# Altium schematic symbol library Surface Mount.SchLib: 89 symbols
Pins are listed as number, name and electrical type; pins without a type are passive.

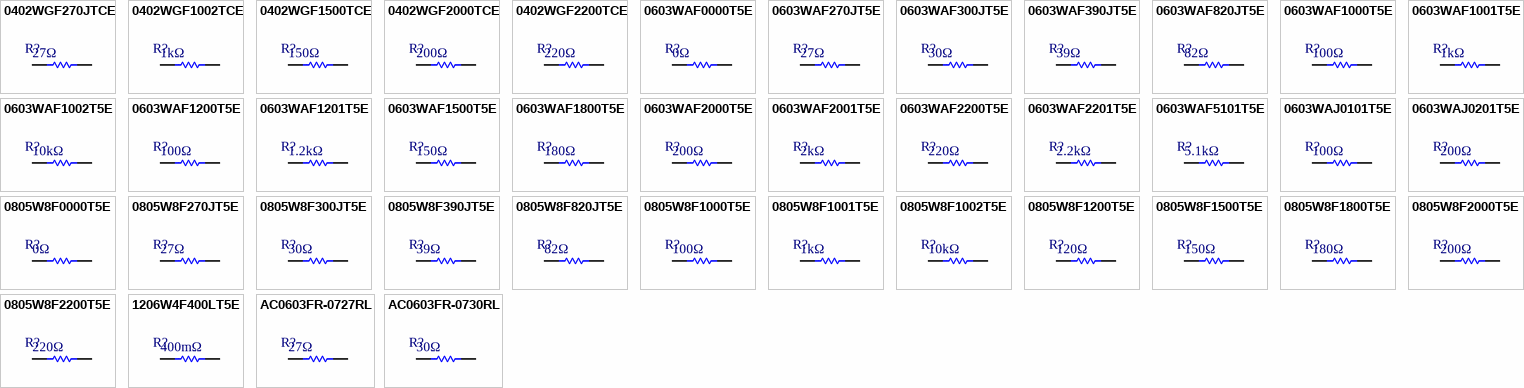
[diagram p0: symbols 0402WGF270JTCE to AC0603FR-0730RL]

## 0402WGF270JTCE
designator R?  value 27Ω  (hidden comment: 0402WGF270JTCE)
UNI-ROYAL(厚声) 0402 厚膜电阻 27Ω ±1% 62.5mW; 封装: 0402; 类别: 贴片电阻; 温度系数: ±100ppm/℃; 制造商: UNI-ROYAL(厚声); 子类别: 厚膜电阻; 精度: ±1%; 功率: 62.5mW; ComponentLink1Description: 数据手册; ComponentLink1URL: https://www.uni-royal.cn/images/userfile/file/1745833593c56505e6d9ab55c7.pdf
footprint UNIROYAL-0402R (UNI-ROYAL(厚声)数据手册中推荐的0402电阻封装)
pins: 1, 2

## 0402WGF1002TCE
designator R?  value 1kΩ  (hidden comment: 0402WGF1002TCE)
UNI-ROYAL(厚声) 0402 厚膜电阻 1kΩ ±1% 62.5mW; 封装: 0402; 类别: 贴片电阻; 温度系数: ±100ppm/℃; 制造商: UNI-ROYAL(厚声); 子类别: 厚膜电阻; 精度: ±1%; 功率: 62.5mW; ComponentLink1Description: 数据手册; ComponentLink1URL: https://www.uni-royal.cn/images/userfile/file/1745833593c56505e6d9ab55c7.pdf
footprint UNIROYAL-0402R (UNI-ROYAL(厚声)数据手册中推荐的0402电阻封装)
pins: 1, 2

## 0402WGF1500TCE
designator R?  value 150Ω  (hidden comment: 0402WGF1500TCE)
UNI-ROYAL(厚声) 0402 厚膜电阻 150Ω ±1% 62.5mW; 封装: 0402; 类别: 贴片电阻; 温度系数: ±100ppm/℃; 制造商: UNI-ROYAL(厚声); 子类别: 厚膜电阻; 精度: ±1%; 功率: 62.5mW; ComponentLink1Description: 数据手册; ComponentLink1URL: https://www.uni-royal.cn/images/userfile/file/1745833593c56505e6d9ab55c7.pdf
footprint UNIROYAL-0402R (UNI-ROYAL(厚声)数据手册中推荐的0402电阻封装)
pins: 1, 2

## 0402WGF2000TCE
designator R?  value 200Ω  (hidden comment: 0402WGF2000TCE)
UNI-ROYAL(厚声) 0402 厚膜电阻 200Ω ±1% 62.5mW; 封装: 0402; 类别: 贴片电阻; 温度系数: ±100ppm/℃; 制造商: UNI-ROYAL(厚声); 子类别: 厚膜电阻; 精度: ±1%; 功率: 62.5mW; ComponentLink1Description: 数据手册; ComponentLink1URL: https://www.uni-royal.cn/images/userfile/file/1745833593c56505e6d9ab55c7.pdf
footprint UNIROYAL-0402R (UNI-ROYAL(厚声)数据手册中推荐的0402电阻封装)
pins: 1, 2

## 0402WGF2200TCE
designator R?  value 220Ω  (hidden comment: 0402WGF2200TCE)
UNI-ROYAL(厚声) 0402 厚膜电阻 220Ω ±1% 62.5mW; 封装: 0402; 类别: 贴片电阻; 温度系数: ±100ppm/℃; 制造商: UNI-ROYAL(厚声); 子类别: 厚膜电阻; 精度: ±1%; 功率: 62.5mW; ComponentLink1Description: 数据手册; ComponentLink1URL: https://www.uni-royal.cn/images/userfile/file/1745833593c56505e6d9ab55c7.pdf
footprint UNIROYAL-0402R (UNI-ROYAL(厚声)数据手册中推荐的0402电阻封装)
pins: 1, 2

## 0603WAF0000T5E
designator R?  value 0Ω  (hidden comment: 0603WAF0000T5E)
UNI-ROYAL(厚声) 0603 厚膜电阻 0Ω ±1% 100mW; 封装: 0603; 类别: 贴片电阻; 温度系数: ±100ppm/℃; 制造商: UNI-ROYAL(厚声); 子类别: 厚膜电阻; 精度: ±1%; 功率: 100mW; ComponentLink1Description: 数据手册; ComponentLink1URL: https://www.uni-royal.cn/images/userfile/file/1745833593c56505e6d9ab55c7.pdf
footprint UNIROYAL-0603R (UNI-ROYAL(厚声)数据手册中推荐的0603电阻封装)
pins: 1, 2

## 0603WAF270JT5E
designator R?  value 27Ω  (hidden comment: 0603WAF270JT5E)
UNI-ROYAL(厚声) 0603 厚膜电阻 27Ω ±1% 100mW; 封装: 0603; 类别: 贴片电阻; 温度系数: ±100ppm/℃; 制造商: UNI-ROYAL(厚声); 子类别: 厚膜电阻; 精度: ±1%; 功率: 100mW; ComponentLink1Description: 数据手册; ComponentLink1URL: https://www.uni-royal.cn/images/userfile/file/1745833593c56505e6d9ab55c7.pdf
footprint UNIROYAL-0603R (UNI-ROYAL(厚声)数据手册中推荐的0603电阻封装)
pins: 1, 2

## 0603WAF300JT5E
designator R?  value 30Ω  (hidden comment: 0603WAF300JT5E)
UNI-ROYAL(厚声) 0603 厚膜电阻 30Ω ±5% 100mW; 封装: 0603; 类别: 贴片电阻; 温度系数: ±100ppm/℃; 制造商: UNI-ROYAL(厚声); 子类别: 厚膜电阻; 精度: ±5%; 功率: 100mW; ComponentLink1Description: 数据手册; ComponentLink1URL: https://www.uni-royal.cn/images/userfile/file/1745833593c56505e6d9ab55c7.pdf
footprint UNIROYAL-0603R (UNI-ROYAL(厚声)数据手册中推荐的0603电阻封装)
pins: 1, 2

## 0603WAF390JT5E
designator R?  value 39Ω  (hidden comment: 0603WAF390JT5E)
UNI-ROYAL(厚声) 0603 厚膜电阻 39Ω ±1% 100mW; 封装: 0603; 类别: 贴片电阻; 温度系数: ±100ppm/℃; 制造商: UNI-ROYAL(厚声); 子类别: 厚膜电阻; 精度: ±1%; 功率: 100mW; ComponentLink1Description: 数据手册; ComponentLink1URL: https://www.uni-royal.cn/images/userfile/file/1745833593c56505e6d9ab55c7.pdf
footprint UNIROYAL-0603R (UNI-ROYAL(厚声)数据手册中推荐的0603电阻封装)
pins: 1, 2

## 0603WAF820JT5E
designator R?  value 82Ω  (hidden comment: 0603WAF820JT5E)
UNI-ROYAL(厚声) 0603 厚膜电阻 82Ω ±1% 100mW; 封装: 0603; 类别: 贴片电阻; 温度系数: ±100ppm/℃; 制造商: UNI-ROYAL(厚声); 子类别: 厚膜电阻; 精度: ±1%; 功率: 100mW; ComponentLink1Description: 数据手册; ComponentLink1URL: https://www.uni-royal.cn/images/userfile/file/1745833593c56505e6d9ab55c7.pdf
footprint UNIROYAL-0603R (UNI-ROYAL(厚声)数据手册中推荐的0603电阻封装)
pins: 1, 2

## 0603WAF1000T5E
designator R?  value 100Ω  (hidden comment: 0603WAF1000T5E)
UNI-ROYAL(厚声) 0603 厚膜电阻 100Ω ±1% 100mW; 封装: 0603; 类别: 贴片电阻; 温度系数: ±100ppm/℃; 制造商: UNI-ROYAL(厚声); 子类别: 厚膜电阻; 精度: ±1%; 功率: 100mW; ComponentLink1Description: 数据手册; ComponentLink1URL: https://www.uni-royal.cn/images/userfile/file/1745833593c56505e6d9ab55c7.pdf
footprint UNIROYAL-0603R (UNI-ROYAL(厚声)数据手册中推荐的0603电阻封装)
pins: 1, 2

## 0603WAF1001T5E
designator R?, comment value 1kΩ  (hidden comment: 0603WAF1002T5E)
UNI-ROYAL(厚声) 0603 厚膜电阻 1kΩ ±1% 100mW; 封装: 0603; 类别: 贴片电阻; 温度系数: ±100ppm/℃; 制造商: UNI-ROYAL(厚声); 子类别: 厚膜电阻; 精度: ±1%; 功率: 100mW; ComponentLink1Description: 数据手册; ComponentLink1URL: https://www.uni-royal.cn/images/userfile/file/1745833593c56505e6d9ab55c7.pdf
footprint UNIROYAL-0603R (UNI-ROYAL(厚声)数据手册中推荐的0603电阻封装)
pins: 1, 2

## 0603WAF1002T5E
designator R?  value 10kΩ  (hidden comment: 0603WAF1002T5E)
UNI-ROYAL(厚声) 0603 厚膜电阻 10kΩ ±1% 100mW; 封装: 0603; 类别: 贴片电阻; 温度系数: ±100ppm/℃; 制造商: UNI-ROYAL(厚声); 子类别: 厚膜电阻; 精度: ±1%; 功率: 100mW; ComponentLink1Description: 数据手册; ComponentLink1URL: https://www.uni-royal.cn/images/userfile/file/1745833593c56505e6d9ab55c7.pdf
footprint UNIROYAL-0603R (UNI-ROYAL(厚声)数据手册中推荐的0603电阻封装)
pins: 1, 2

## 0603WAF1200T5E
designator R?  value 100Ω  (hidden comment: 0603WAF1200T5E)
UNI-ROYAL(厚声) 0603 厚膜电阻 120Ω ±1% 100mW; 封装: 0603; 类别: 贴片电阻; 温度系数: ±100ppm/℃; 制造商: UNI-ROYAL(厚声); 子类别: 厚膜电阻; 精度: ±1%; 功率: 100mW; ComponentLink1Description: 数据手册; ComponentLink1URL: https://www.uni-royal.cn/images/userfile/file/1745833593c56505e6d9ab55c7.pdf
footprint UNIROYAL-0603R (UNI-ROYAL(厚声)数据手册中推荐的0603电阻封装)
pins: 1, 2

## 0603WAF1201T5E
designator R?  value 1.2kΩ  (hidden comment: 0603WAF1201T5E)
UNI-ROYAL(厚声) 0603 厚膜电阻 1.2kΩ ±1% 100mW; 封装: 0603; 类别: 贴片电阻; 温度系数: ±100ppm/℃; 制造商: UNI-ROYAL(厚声); 子类别: 厚膜电阻; 精度: ±1%; 功率: 100mW; ComponentLink1Description: 数据手册; ComponentLink1URL: https://www.uni-royal.cn/images/userfile/file/1745833593c56505e6d9ab55c7.pdf
footprint UNIROYAL-0603R (UNI-ROYAL(厚声)数据手册中推荐的0603电阻封装)
pins: 1, 2

## 0603WAF1500T5E
designator R?  value 150Ω  (hidden comment: 0603WAF1500T5E)
UNI-ROYAL(厚声) 0603 厚膜电阻 150Ω ±1% 100mW; 封装: 0603; 类别: 贴片电阻; 温度系数: ±100ppm/℃; 制造商: UNI-ROYAL(厚声); 子类别: 厚膜电阻; 精度: ±1%; 功率: 100mW; ComponentLink1Description: 数据手册; ComponentLink1URL: https://www.uni-royal.cn/images/userfile/file/1745833593c56505e6d9ab55c7.pdf
footprint UNIROYAL-0603R (UNI-ROYAL(厚声)数据手册中推荐的0603电阻封装)
pins: 1, 2

## 0603WAF1800T5E
designator R?  value 180Ω  (hidden comment: 0603WAF1800T5E)
UNI-ROYAL(厚声) 0603 厚膜电阻 180Ω ±1% 100mW; 封装: 0603; 类别: 贴片电阻; 温度系数: ±100ppm/℃; 制造商: UNI-ROYAL(厚声); 子类别: 厚膜电阻; 精度: ±1%; 功率: 100mW; ComponentLink1Description: 数据手册; ComponentLink1URL: https://www.uni-royal.cn/images/userfile/file/1745833593c56505e6d9ab55c7.pdf
footprint UNIROYAL-0603R (UNI-ROYAL(厚声)数据手册中推荐的0603电阻封装)
pins: 1, 2

## 0603WAF2000T5E
designator R?  value 200Ω  (hidden comment: 0603WAF2000T5E)
UNI-ROYAL(厚声) 0603 厚膜电阻 200Ω ±1% 100mW; 封装: 0603; 类别: 贴片电阻; 温度系数: ±100ppm/℃; 制造商: UNI-ROYAL(厚声); 子类别: 厚膜电阻; 精度: ±1%; 功率: 100mW; ComponentLink1Description: 数据手册; ComponentLink1URL: https://www.uni-royal.cn/images/userfile/file/1745833593c56505e6d9ab55c7.pdf
footprint UNIROYAL-0603R (UNI-ROYAL(厚声)数据手册中推荐的0603电阻封装)
pins: 1, 2

## 0603WAF2001T5E
designator R?  value 2kΩ  (hidden comment: 0603WAF2001T5E)
UNI-ROYAL(厚声) 0603 厚膜电阻 2kΩ ±1% 100mW; 封装: 0603; 类别: 贴片电阻; 温度系数: ±100ppm/℃; 制造商: UNI-ROYAL(厚声); 子类别: 厚膜电阻; 精度: ±1%; 功率: 100mW; ComponentLink1Description: 数据手册; ComponentLink1URL: https://www.uni-royal.cn/images/userfile/file/1745833593c56505e6d9ab55c7.pdf
footprint UNIROYAL-0603R (UNI-ROYAL(厚声)数据手册中推荐的0603电阻封装)
pins: 1, 2

## 0603WAF2200T5E
designator R?  value 220Ω  (hidden comment: 0603WAF2200T5E)
UNI-ROYAL(厚声) 0603 厚膜电阻 220Ω ±1% 100mW; 封装: 0603; 类别: 贴片电阻; 温度系数: ±100ppm/℃; 制造商: UNI-ROYAL(厚声); 子类别: 厚膜电阻; 精度: ±1%; 功率: 100mW; ComponentLink1Description: 数据手册; ComponentLink1URL: https://www.uni-royal.cn/images/userfile/file/1745833593c56505e6d9ab55c7.pdf
footprint UNIROYAL-0603R (UNI-ROYAL(厚声)数据手册中推荐的0603电阻封装)
pins: 1, 2

## 0603WAF2201T5E
designator R?  value 2.2kΩ  (hidden comment: 0603WAF2201T5E)
UNI-ROYAL(厚声) 0603 厚膜电阻 2.2kΩ ±1% 100mW; 封装: 0603; 类别: 贴片电阻; 温度系数: ±100ppm/℃; 制造商: UNI-ROYAL(厚声); 子类别: 厚膜电阻; 精度: ±1%; 功率: 100mW; ComponentLink1Description: 数据手册; ComponentLink1URL: https://www.uni-royal.cn/images/userfile/file/1745833593c56505e6d9ab55c7.pdf
footprint UNIROYAL-0603R (UNI-ROYAL(厚声)数据手册中推荐的0603电阻封装)
pins: 1, 2

## 0603WAF5101T5E
designator R?  value 5.1kΩ  (hidden comment: 0603WAF5101T5E)
UNI-ROYAL(厚声) 0603 厚膜电阻 5.1kΩ ±1% 100mW; 封装: 0603; 类别: 贴片电阻; 温度系数: ±100ppm/℃; 制造商: UNI-ROYAL(厚声); 子类别: 厚膜电阻; 精度: ±1%; 功率: 100mW; ComponentLink1Description: 数据手册; ComponentLink1URL: https://www.uni-royal.cn/images/userfile/file/1745833593c56505e6d9ab55c7.pdf
footprint UNIROYAL-0603R (UNI-ROYAL(厚声)数据手册中推荐的0603电阻封装)
pins: 1, 2

## 0603WAJ0101T5E
designator R?  value 100Ω  (hidden comment: 0603WAJ0101T5E)
UNI-ROYAL(厚声) 0603 厚膜电阻 100Ω ±5% 100mW; 封装: 0603; 类别: 贴片电阻; 温度系数: ±100ppm/℃; 制造商: UNI-ROYAL(厚声); 子类别: 厚膜电阻; 精度: ±5%; 功率: 100mW; ComponentLink1Description: 数据手册; ComponentLink1URL: https://www.uni-royal.cn/images/userfile/file/1745833593c56505e6d9ab55c7.pdf
footprint UNIROYAL-0603R (UNI-ROYAL(厚声)数据手册中推荐的0603电阻封装)
pins: 1, 2

## 0603WAJ0201T5E
designator R?  value 200Ω  (hidden comment: 0603WAJ0201T5E)
UNI-ROYAL(厚声) 0603 厚膜电阻 200Ω ±5% 100mW; 封装: 0603; 类别: 贴片电阻; 温度系数: ±100ppm/℃; 制造商: UNI-ROYAL(厚声); 子类别: 厚膜电阻; 精度: ±5%; 功率: 100mW; ComponentLink1Description: 数据手册; ComponentLink1URL: https://www.uni-royal.cn/images/userfile/file/1745833593c56505e6d9ab55c7.pdf
footprint UNIROYAL-0603R (UNI-ROYAL(厚声)数据手册中推荐的0603电阻封装)
pins: 1, 2

## 0805W8F0000T5E
designator R?  value 0Ω  (hidden comment: 0805W8F0000T5E)
UNI-ROYAL(厚声) 0805 厚膜电阻 0Ω ±1% 125mW; 封装: 0805; 类别: 贴片电阻; 温度系数: ±100ppm/℃; 制造商: UNI-ROYAL(厚声); 子类别: 厚膜电阻; 精度: ±1%; 功率: 125mW; ComponentLink1Description: 数据手册; ComponentLink1URL: https://www.uni-royal.cn/images/userfile/file/1745833593c56505e6d9ab55c7.pdf
footprint UNIROYAL-0805R (UNI-ROYAL(厚声)数据手册中推荐的0805贴片电阻封装)
pins: 1, 2

## 0805W8F270JT5E
designator R?  value 27Ω  (hidden comment: 0805W8F270JT5E)
UNI-ROYAL(厚声) 0805 厚膜电阻 27Ω ±1% 125mW; 封装: 0805; 类别: 贴片电阻; 温度系数: ±100ppm/℃; 制造商: UNI-ROYAL(厚声); 子类别: 厚膜电阻; 精度: ±1%; 功率: 125mW; ComponentLink1Description: 数据手册; ComponentLink1URL: https://www.uni-royal.cn/images/userfile/file/1745833593c56505e6d9ab55c7.pdf
footprint UNIROYAL-0805R (UNI-ROYAL(厚声)数据手册中推荐的0805贴片电阻封装)
pins: 1, 2

## 0805W8F300JT5E
designator R?  value 30Ω  (hidden comment: 0805W8F300JT5E)
UNI-ROYAL(厚声) 0805 厚膜电阻 30Ω ±1% 125mW; 封装: 0805; 类别: 贴片电阻; 温度系数: ±100ppm/℃; 制造商: UNI-ROYAL(厚声); 子类别: 厚膜电阻; 精度: ±1%; 功率: 125mW; ComponentLink1Description: 数据手册; ComponentLink1URL: https://www.uni-royal.cn/images/userfile/file/1745833593c56505e6d9ab55c7.pdf
footprint UNIROYAL-0805R (UNI-ROYAL(厚声)数据手册中推荐的0805贴片电阻封装)
pins: 1, 2

## 0805W8F390JT5E
designator R?  value 39Ω  (hidden comment: 0805W8F390JT5E)
UNI-ROYAL(厚声) 0805 厚膜电阻 39Ω ±1% 125mW; 封装: 0805; 类别: 贴片电阻; 温度系数: ±100ppm/℃; 制造商: UNI-ROYAL(厚声); 子类别: 厚膜电阻; 精度: ±1%; 功率: 125mW; ComponentLink1Description: 数据手册; ComponentLink1URL: https://www.uni-royal.cn/images/userfile/file/1745833593c56505e6d9ab55c7.pdf
footprint UNIROYAL-0805R (UNI-ROYAL(厚声)数据手册中推荐的0805贴片电阻封装)
pins: 1, 2

## 0805W8F820JT5E
designator R?  value 82Ω  (hidden comment: 0805W8F820JT5E)
UNI-ROYAL(厚声) 0805 厚膜电阻 82Ω ±1% 125mW; 封装: 0805; 类别: 贴片电阻; 温度系数: ±100ppm/℃; 制造商: UNI-ROYAL(厚声); 子类别: 厚膜电阻; 精度: ±1%; 功率: 125mW; ComponentLink1Description: 数据手册; ComponentLink1URL: https://www.uni-royal.cn/images/userfile/file/1745833593c56505e6d9ab55c7.pdf
footprint UNIROYAL-0805R (UNI-ROYAL(厚声)数据手册中推荐的0805贴片电阻封装)
pins: 1, 2

## 0805W8F1000T5E
designator R?  value 100Ω  (hidden comment: 0805W8F1000T5E)
UNI-ROYAL(厚声) 0805 厚膜电阻 100Ω ±1% 125mW; 封装: 0805; 类别: 贴片电阻; 温度系数: ±100ppm/℃; 制造商: UNI-ROYAL(厚声); 子类别: 厚膜电阻; 精度: ±1%; 功率: 125mW; ComponentLink1Description: 数据手册; ComponentLink1URL: https://www.uni-royal.cn/images/userfile/file/1745833593c56505e6d9ab55c7.pdf
footprint UNIROYAL-0805R (UNI-ROYAL(厚声)数据手册中推荐的0805贴片电阻封装)
pins: 1, 2

## 0805W8F1001T5E
designator R?  value 1kΩ  (hidden comment: 0805W8F1001T5E)
UNI-ROYAL(厚声) 0805 厚膜电阻 1kΩ ±1% 125mW; 封装: 0805; 类别: 贴片电阻; 温度系数: ±100ppm/℃; 制造商: UNI-ROYAL(厚声); 子类别: 厚膜电阻; 精度: ±1%; 功率: 125mW; ComponentLink1Description: 数据手册; ComponentLink1URL: https://www.uni-royal.cn/images/userfile/file/1745833593c56505e6d9ab55c7.pdf
footprint UNIROYAL-0805R (UNI-ROYAL(厚声)数据手册中推荐的0805贴片电阻封装)
pins: 1, 2

## 0805W8F1002T5E
designator R?  value 10kΩ  (hidden comment: 0805W8F1002T5E)
UNI-ROYAL(厚声) 0805 厚膜电阻 10kΩ ±1% 125mW; 封装: 0805; 类别: 贴片电阻; 温度系数: ±100ppm/℃; 制造商: UNI-ROYAL(厚声); 子类别: 厚膜电阻; 精度: ±1%; 功率: 125mW; ComponentLink1Description: 数据手册; ComponentLink1URL: https://www.uni-royal.cn/images/userfile/file/1745833593c56505e6d9ab55c7.pdf
footprint UNIROYAL-0805R (UNI-ROYAL(厚声)数据手册中推荐的0805贴片电阻封装)
pins: 1, 2

## 0805W8F1200T5E
designator R?  value 120Ω  (hidden comment: 0805W8F1200T5E)
UNI-ROYAL(厚声) 0805 厚膜电阻 120Ω ±1% 125mW; 封装: 0805; 类别: 贴片电阻; 温度系数: ±100ppm/℃; 制造商: UNI-ROYAL(厚声); 子类别: 厚膜电阻; 精度: ±1%; 功率: 125mW; ComponentLink1Description: 数据手册; ComponentLink1URL: https://www.uni-royal.cn/images/userfile/file/1745833593c56505e6d9ab55c7.pdf
footprint UNIROYAL-0805R (UNI-ROYAL(厚声)数据手册中推荐的0805贴片电阻封装)
pins: 1, 2

## 0805W8F1500T5E
designator R?  value 150Ω  (hidden comment: 0805W8F1500T5E)
UNI-ROYAL(厚声) 0805 厚膜电阻 150Ω ±1% 125mW; 封装: 0805; 类别: 贴片电阻; 温度系数: ±100ppm/℃; 制造商: UNI-ROYAL(厚声); 子类别: 厚膜电阻; 精度: ±1%; 功率: 125mW; ComponentLink1Description: 数据手册; ComponentLink1URL: https://www.uni-royal.cn/images/userfile/file/1745833593c56505e6d9ab55c7.pdf
footprint UNIROYAL-0805R (UNI-ROYAL(厚声)数据手册中推荐的0805贴片电阻封装)
pins: 1, 2

## 0805W8F1800T5E
designator R?  value 180Ω  (hidden comment: 0805W8F1800T5E)
UNI-ROYAL(厚声) 0805 厚膜电阻 180Ω ±1% 125mW; 封装: 0805; 类别: 贴片电阻; 温度系数: ±100ppm/℃; 制造商: UNI-ROYAL(厚声); 子类别: 厚膜电阻; 精度: ±1%; 功率: 125mW; ComponentLink1Description: 数据手册; ComponentLink1URL: https://www.uni-royal.cn/images/userfile/file/1745833593c56505e6d9ab55c7.pdf
footprint UNIROYAL-0805R (UNI-ROYAL(厚声)数据手册中推荐的0805贴片电阻封装)
pins: 1, 2

## 0805W8F2000T5E
designator R?  value 200Ω  (hidden comment: 0805W8F2000T5E)
UNI-ROYAL(厚声) 0805 厚膜电阻 200Ω ±1% 125mW; 封装: 0805; 类别: 贴片电阻; 温度系数: ±100ppm/℃; 制造商: UNI-ROYAL(厚声); 子类别: 厚膜电阻; 精度: ±1%; 功率: 125mW; ComponentLink1Description: 数据手册; ComponentLink1URL: https://www.uni-royal.cn/images/userfile/file/1745833593c56505e6d9ab55c7.pdf
footprint UNIROYAL-0805R (UNI-ROYAL(厚声)数据手册中推荐的0805贴片电阻封装)
pins: 1, 2

## 0805W8F2200T5E
designator R?  value 220Ω  (hidden comment: 0805W8F2200T5E)
UNI-ROYAL(厚声) 0805 厚膜电阻 220Ω ±1% 125mW; 封装: 0805; 类别: 贴片电阻; 温度系数: ±100ppm/℃; 制造商: UNI-ROYAL(厚声); 子类别: 厚膜电阻; 精度: ±1%; 功率: 125mW; ComponentLink1Description: 数据手册; ComponentLink1URL: https://www.uni-royal.cn/images/userfile/file/1745833593c56505e6d9ab55c7.pdf
footprint UNIROYAL-0805R (UNI-ROYAL(厚声)数据手册中推荐的0805贴片电阻封装)
pins: 1, 2

## 1206W4F400LT5E
designator R?  value 400mΩ  (hidden comment: 1206W4F400LT5E)
UNI-ROYAL(厚声) 1206 厚膜电阻 400mΩ ±1% 250mW; 封装: 1206; 类别: 贴片电阻; 温度系数: ±100ppm/℃; 制造商: UNI-ROYAL(厚声); 子类别: 厚膜电阻; 精度: ±1%; 功率: 250mW; ComponentLink1Description: 数据手册; ComponentLink1URL: https://www.uni-royal.cn/images/userfile/file/1745833593c56505e6d9ab55c7.pdf
footprint UNIROYAL-1206R (UNI-ROYAL(厚声)数据手册中推荐的1206贴片电阻封装)
pins: 1, 2

## AC0603FR-0727RL
designator R?  value 27Ω  (hidden comment: AC0603FR-0727RL)
YAGEO(国巨) 0603 厚膜电阻 27Ω ±1% 100mW; 封装: 0603; 类别: 贴片电阻; 温度系数: ±100ppm/℃; 制造商: YAGEO(国巨); 子类别: 厚膜电阻; 精度: ±1%; 功率: 100mW; ComponentLink1Description: 数据手册; ComponentLink1URL: https://www.yageo.com/upload/website/yageo_PYu-R_INT-thick_8_19090411_330.pdf
footprint YAGEO-0603R-reflow (YAGEO(国巨)数据手册中推荐的0603电阻的回流焊封装)
footprint YAGEO-0603R-wave (YAGEO(国巨)数据手册中推荐的0603电阻的波峰焊封装)
pins: 1, 2

## AC0603FR-0730RL
designator R?  value 30Ω  (hidden comment: AC0603FR-0730RL)
YAGEO(国巨) 0603 厚膜电阻 30Ω ±1% 100mW; 封装: 0603; 类别: 贴片电阻; 温度系数: ±100ppm/℃; 制造商: YAGEO(国巨); 子类别: 厚膜电阻; 精度: ±1%; 功率: 100mW; ComponentLink1Description: 数据手册; ComponentLink1URL: https://www.yageo.com/upload/website/yageo_PYu-R_INT-thick_8_19090411_330.pdf
footprint YAGEO-0603R-reflow (YAGEO(国巨)数据手册中推荐的0603电阻的回流焊封装)
footprint YAGEO-0603R-wave (YAGEO(国巨)数据手册中推荐的0603电阻的波峰焊封装)
pins: 1, 2

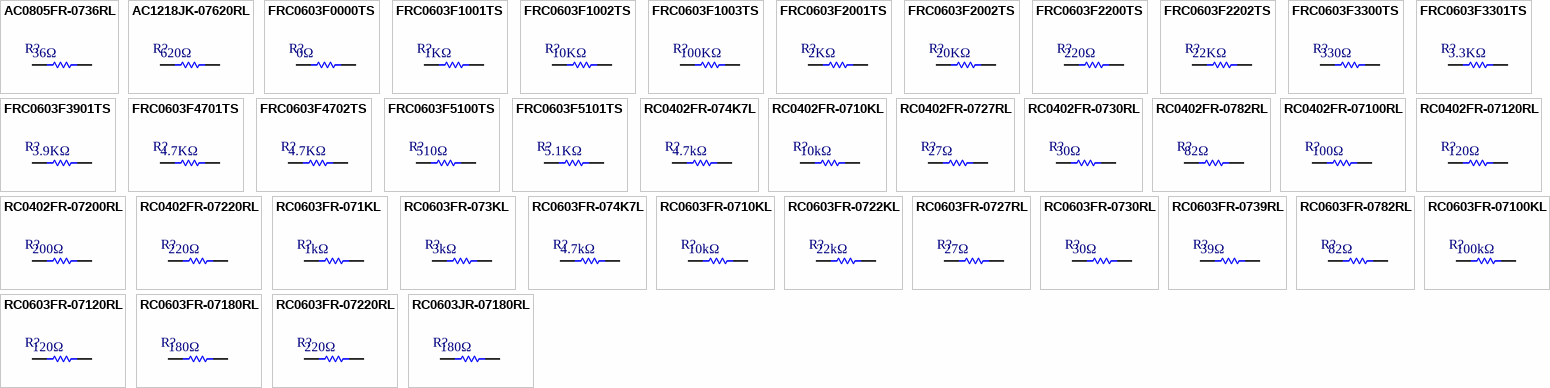
[diagram p1: symbols AC0805FR-0736RL to RC0603JR-07180RL]

## AC0805FR-0736RL
designator R?  value 36Ω  (hidden comment: AC0805FR-0736RL)
YAGEO(国巨) 0805 厚膜电阻 36Ω ±1% 125mW; 封装: 0805; 类别: 贴片电阻; 温度系数: ±100ppm/℃; 制造商: YAGEO(国巨); 子类别: 厚膜电阻; 精度: ±1%; 功率: 125mW; ComponentLink1Description: 数据手册; ComponentLink1URL: https://www.yageo.com/upload/website/yageo_PYu-R_INT-thick_8_19090411_330.pdf
footprint YAGEO-0805R-reflow (YAGEO(国巨)数据手册中推荐的0805贴片电阻的回流焊封装)
footprint YAGEO-0805R-wave (YAGEO(国巨)数据手册中推荐的0805贴片电阻的波峰焊封装)
pins: 1, 2

## AC1218JK-07620RL
designator R?  value 620Ω  (hidden comment: AC1218JK-07620RL)
YAGEO(国巨) 1218 厚膜电阻 620Ω ±5% 1W; 封装: 1218; 类别: 贴片电阻; 温度系数: ±100ppm/℃; 制造商: YAGEO(国巨); 子类别: 厚膜电阻; 精度: ±5%; 功率: 1W; ComponentLink1Description: 数据手册; ComponentLink1URL: https://www.yageo.com/upload/website/yageo_PYu-R_INT-thick_8_19090411_330.pdf
footprint YAGEO-1218R-reflow (YAGEO(国巨)数据手册中推荐的1218贴片电阻的回流焊封装)
footprint YAGEO-1218R-wave (YAGEO(国巨)数据手册中推荐的1218贴片电阻的波峰焊封装)
pins: 1, 2

## FRC0603F0000TS
designator R?  value 0Ω  (hidden comment: FRC0603F0000TS)
FOJAN(富捷) 0603 厚膜电阻 0Ω ±1% 100mW; 封装: 0603; 类别: 贴片电阻; 温度系数: ±100ppm/℃; 制造商: FOJAN(富捷); 子类别: 厚膜电阻; 精度: ±1%; 功率: 100mW; ComponentLink1Description: 数据手册; ComponentLink1URL: https://www.fosan.vip/Admin/Others/DownloadsPage.aspx?nid=3&id=230&tag=0&ref=prod_view&pre=0&t=3d67307fafa5412e
footprint FOJAN-0603 (FOJAN(富捷) 贴片电阻封装 根据尺寸生成)
pins: 1, 2

## FRC0603F1001TS
designator R?  value 1KΩ  (hidden comment: FRC0603F1001TS)
FOJAN(富捷) 0603 厚膜电阻 1KΩ ±1% 100mW; 封装: 0603; 类别: 贴片电阻; 温度系数: ±100ppm/℃; 制造商: FOJAN(富捷); 子类别: 厚膜电阻; 精度: ±1%; 功率: 100mW; ComponentLink1Description: 数据手册; ComponentLink1URL: https://www.fosan.vip/Admin/Others/DownloadsPage.aspx?nid=3&id=230&tag=0&ref=prod_view&pre=0&t=3d67307fafa5412e
footprint FOJAN-0603 (FOJAN(富捷) 贴片电阻封装 根据尺寸生成)
pins: 1, 2

## FRC0603F1002TS
designator R?  value 10KΩ  (hidden comment: FRC0603F1002TS)
FOJAN(富捷) 0603 厚膜电阻 10KΩ ±1% 100mW; 封装: 0603; 类别: 贴片电阻; 温度系数: ±100ppm/℃; 制造商: FOJAN(富捷); 子类别: 厚膜电阻; 精度: ±1%; 功率: 100mW; ComponentLink1Description: 数据手册; ComponentLink1URL: https://www.fosan.vip/Admin/Others/DownloadsPage.aspx?nid=3&id=230&tag=0&ref=prod_view&pre=0&t=3d67307fafa5412e
footprint FOJAN-0603 (FOJAN(富捷) 贴片电阻封装 根据尺寸生成)
pins: 1, 2

## FRC0603F1003TS
designator R?  value 100KΩ  (hidden comment: FRC0603F1003TS)
FOJAN(富捷) 0603 厚膜电阻 100KΩ ±1% 100mW; 封装: 0603; 类别: 贴片电阻; 温度系数: ±100ppm/℃; 制造商: FOJAN(富捷); 子类别: 厚膜电阻; 精度: ±1%; 功率: 100mW; ComponentLink1Description: 数据手册; ComponentLink1URL: https://www.fosan.vip/Admin/Others/DownloadsPage.aspx?nid=3&id=230&tag=0&ref=prod_view&pre=0&t=3d67307fafa5412e
footprint FOJAN-0603 (FOJAN(富捷) 贴片电阻封装 根据尺寸生成)
pins: 1, 2

## FRC0603F2001TS
designator R?  value 2KΩ  (hidden comment: FRC0603F2001TS)
FOJAN(富捷) 0603 厚膜电阻 2KΩ ±1% 100mW; 封装: 0603; 类别: 贴片电阻; 温度系数: ±100ppm/℃; 制造商: FOJAN(富捷); 子类别: 厚膜电阻; 精度: ±1%; 功率: 100mW; ComponentLink1Description: 数据手册; ComponentLink1URL: https://www.fosan.vip/Admin/Others/DownloadsPage.aspx?nid=3&id=230&tag=0&ref=prod_view&pre=0&t=3d67307fafa5412e
footprint FOJAN-0603 (FOJAN(富捷) 贴片电阻封装 根据尺寸生成)
pins: 1, 2

## FRC0603F2002TS
designator R?  value 20KΩ  (hidden comment: FRC0603F2002TS)
FOJAN(富捷) 0603 厚膜电阻 20KΩ ±1% 100mW; 封装: 0603; 类别: 贴片电阻; 温度系数: ±100ppm/℃; 制造商: FOJAN(富捷); 子类别: 厚膜电阻; 精度: ±1%; 功率: 100mW; ComponentLink1Description: 数据手册; ComponentLink1URL: https://www.fosan.vip/Admin/Others/DownloadsPage.aspx?nid=3&id=230&tag=0&ref=prod_view&pre=0&t=3d67307fafa5412e
footprint FOJAN-0603 (FOJAN(富捷) 贴片电阻封装 根据尺寸生成)
pins: 1, 2

## FRC0603F2200TS
designator R?  value 220Ω  (hidden comment: FRC0603F2200TS)
FOJAN(富捷) 0603 厚膜电阻 220Ω ±1% 100mW; 封装: 0603; 类别: 贴片电阻; 温度系数: ±100ppm/℃; 制造商: FOJAN(富捷); 子类别: 厚膜电阻; 精度: ±1%; 功率: 100mW; ComponentLink1Description: 数据手册; ComponentLink1URL: https://www.fosan.vip/Admin/Others/DownloadsPage.aspx?nid=3&id=230&tag=0&ref=prod_view&pre=0&t=3d67307fafa5412e
footprint FOJAN-0603 (FOJAN(富捷) 贴片电阻封装 根据尺寸生成)
pins: 1, 2

## FRC0603F2202TS
designator R?  value 22KΩ  (hidden comment: FRC0603F2202TS)
FOJAN(富捷) 0603 厚膜电阻 22KΩ ±1% 100mW; 封装: 0603; 类别: 贴片电阻; 温度系数: ±100ppm/℃; 制造商: FOJAN(富捷); 子类别: 厚膜电阻; 精度: ±1%; 功率: 100mW; ComponentLink1Description: 数据手册; ComponentLink1URL: https://www.fosan.vip/Admin/Others/DownloadsPage.aspx?nid=3&id=230&tag=0&ref=prod_view&pre=0&t=3d67307fafa5412e
footprint FOJAN-0603 (FOJAN(富捷) 贴片电阻封装 根据尺寸生成)
pins: 1, 2

## FRC0603F3300TS
designator R?  value 330Ω  (hidden comment: FRC0603F3300TS)
FOJAN(富捷) 0603 厚膜电阻 330Ω ±1% 100mW; 封装: 0603; 类别: 贴片电阻; 温度系数: ±100ppm/℃; 制造商: FOJAN(富捷); 子类别: 厚膜电阻; 精度: ±1%; 功率: 100mW; ComponentLink1Description: 数据手册; ComponentLink1URL: https://www.fosan.vip/Admin/Others/DownloadsPage.aspx?nid=3&id=230&tag=0&ref=prod_view&pre=0&t=3d67307fafa5412e
footprint FOJAN-0603 (FOJAN(富捷) 贴片电阻封装 根据尺寸生成)
pins: 1, 2

## FRC0603F3301TS
designator R?  value 3.3KΩ  (hidden comment: FRC0603F3301TS)
FOJAN(富捷) 0603 厚膜电阻 3.3KΩ ±1% 100mW; 封装: 0603; 类别: 贴片电阻; 温度系数: ±100ppm/℃; 制造商: FOJAN(富捷); 子类别: 厚膜电阻; 精度: ±1%; 功率: 100mW; ComponentLink1Description: 数据手册; ComponentLink1URL: https://www.fosan.vip/Admin/Others/DownloadsPage.aspx?nid=3&id=230&tag=0&ref=prod_view&pre=0&t=3d67307fafa5412e
footprint FOJAN-0603 (FOJAN(富捷) 贴片电阻封装 根据尺寸生成)
pins: 1, 2

## FRC0603F3901TS
designator R?  value 3.9KΩ  (hidden comment: FRC0603F3901TS)
FOJAN(富捷) 0603 厚膜电阻 3.9KΩ ±1% 100mW; 封装: 0603; 类别: 贴片电阻; 温度系数: ±100ppm/℃; 制造商: FOJAN(富捷); 子类别: 厚膜电阻; 精度: ±1%; 功率: 100mW; ComponentLink1Description: 数据手册; ComponentLink1URL: https://www.fosan.vip/Admin/Others/DownloadsPage.aspx?nid=3&id=230&tag=0&ref=prod_view&pre=0&t=3d67307fafa5412e
footprint FOJAN-0603 (FOJAN(富捷) 贴片电阻封装 根据尺寸生成)
pins: 1, 2

## FRC0603F4701TS
designator R?  value 4.7KΩ  (hidden comment: FRC0603F4701TS)
FOJAN(富捷) 0603 厚膜电阻 4.7KΩ ±1% 100mW; 封装: 0603; 类别: 贴片电阻; 温度系数: ±100ppm/℃; 制造商: FOJAN(富捷); 子类别: 厚膜电阻; 精度: ±1%; 功率: 100mW; ComponentLink1Description: 数据手册; ComponentLink1URL: https://www.fosan.vip/Admin/Others/DownloadsPage.aspx?nid=3&id=230&tag=0&ref=prod_view&pre=0&t=3d67307fafa5412e
footprint FOJAN-0603 (FOJAN(富捷) 贴片电阻封装 根据尺寸生成)
pins: 1, 2

## FRC0603F4702TS
designator R?  value 4.7KΩ  (hidden comment: FRC0603F4702TS)
FOJAN(富捷) 0603 厚膜电阻 4.7KΩ ±1% 100mW; 封装: 0603; 类别: 贴片电阻; 温度系数: ±100ppm/℃; 制造商: FOJAN(富捷); 子类别: 厚膜电阻; 精度: ±1%; 功率: 100mW; ComponentLink1Description: 数据手册; ComponentLink1URL: https://www.fosan.vip/Admin/Others/DownloadsPage.aspx?nid=3&id=230&tag=0&ref=prod_view&pre=0&t=3d67307fafa5412e
footprint FOJAN-0603 (FOJAN(富捷) 贴片电阻封装 根据尺寸生成)
pins: 1, 2

## FRC0603F5100TS
designator R?  value 510Ω  (hidden comment: FRC0603F5100TS)
FOJAN(富捷) 0603 厚膜电阻 510Ω ±1% 100mW; 封装: 0603; 类别: 贴片电阻; 温度系数: ±100ppm/℃; 制造商: FOJAN(富捷); 子类别: 厚膜电阻; 精度: ±1%; 功率: 100mW; ComponentLink1Description: 数据手册; ComponentLink1URL: https://www.fosan.vip/Admin/Others/DownloadsPage.aspx?nid=3&id=230&tag=0&ref=prod_view&pre=0&t=3d67307fafa5412e
footprint FOJAN-0603 (FOJAN(富捷) 贴片电阻封装 根据尺寸生成)
pins: 1, 2

## FRC0603F5101TS
designator R?  value 5.1KΩ  (hidden comment: FRC0603F5101TS)
FOJAN(富捷) 0603 厚膜电阻 5.1KΩ ±1% 100mW; 封装: 0603; 类别: 贴片电阻; 温度系数: ±100ppm/℃; 制造商: FOJAN(富捷); 子类别: 厚膜电阻; 精度: ±1%; 功率: 100mW; ComponentLink1Description: 数据手册; ComponentLink1URL: https://www.fosan.vip/Admin/Others/DownloadsPage.aspx?nid=3&id=230&tag=0&ref=prod_view&pre=0&t=3d67307fafa5412e
footprint FOJAN-0603 (FOJAN(富捷) 贴片电阻封装 根据尺寸生成)
pins: 1, 2

## RC0402FR-074K7L
designator R?  value 4.7kΩ  (hidden comment: RC0402FR-074K7L)
YAGEO(国巨) 0402 厚膜电阻 4.7kΩ ±1% 62.5mW; 封装: 0402; 类别: 贴片电阻; 温度系数: ±100ppm/℃; 制造商: YAGEO(国巨); 子类别: 厚膜电阻; 精度: ±1%; 功率: 62.5mW; ComponentLink1Description: 数据手册; ComponentLink1URL: https://www.yageo.com/upload/website/yageo_PYu-R_INT-thick_8_19090411_330.pdf
footprint YAGEO-0402R-reflow (YAGEO(国巨)数据手册中推荐的0402电阻的回流焊封装)
pins: 1, 2

## RC0402FR-0710KL
designator R?  value 10kΩ  (hidden comment: RC0402FR-0710KL)
YAGEO(国巨) 0402 厚膜电阻 10kΩ ±1% 62.5mW; 封装: 0402; 类别: 贴片电阻; 温度系数: ±100ppm/℃; 制造商: YAGEO(国巨); 子类别: 厚膜电阻; 精度: ±1%; 功率: 62.5mW; ComponentLink1Description: 数据手册; ComponentLink1URL: https://www.yageo.com/upload/website/yageo_PYu-R_INT-thick_8_19090411_330.pdf
footprint YAGEO-0402R-reflow (YAGEO(国巨)数据手册中推荐的0402电阻的回流焊封装)
pins: 1, 2

## RC0402FR-0727RL
designator R?  value 27Ω  (hidden comment: RC0402FR-0727RL)
YAGEO(国巨) 0402 厚膜电阻 27Ω ±1% 62.5mW; 封装: 0402; 类别: 贴片电阻; 温度系数: ±100ppm/℃; 制造商: YAGEO(国巨); 子类别: 厚膜电阻; 精度: ±1%; 功率: 62.5mW; ComponentLink1Description: 数据手册; ComponentLink1URL: https://www.yageo.com/upload/website/yageo_PYu-R_INT-thick_8_19090411_330.pdf
footprint YAGEO-0402R-reflow (YAGEO(国巨)数据手册中推荐的0402电阻的回流焊封装)
pins: 1, 2

## RC0402FR-0730RL
designator R?  value 30Ω  (hidden comment: RC0402FR-0730RL)
YAGEO(国巨) 0402 厚膜电阻 30Ω ±1% 62.5mW; 封装: 0402; 类别: 贴片电阻; 温度系数: ±100ppm/℃; 制造商: YAGEO(国巨); 子类别: 厚膜电阻; 精度: ±1%; 功率: 62.5mW; ComponentLink1Description: 数据手册; ComponentLink1URL: https://www.yageo.com/upload/website/yageo_PYu-R_INT-thick_8_19090411_330.pdf
footprint YAGEO-0402R-reflow (YAGEO(国巨)数据手册中推荐的0402电阻的回流焊封装)
pins: 1, 2

## RC0402FR-0782RL
designator R?  value 82Ω  (hidden comment: RC0402FR-0782RL)
YAGEO(国巨) 0402 厚膜电阻 82Ω ±1% 62.5mW; 封装: 0402; 类别: 贴片电阻; 温度系数: ±100ppm/℃; 制造商: YAGEO(国巨); 子类别: 厚膜电阻; 精度: ±1%; 功率: 62.5mW; ComponentLink1Description: 数据手册; ComponentLink1URL: https://www.yageo.com/upload/website/yageo_PYu-R_INT-thick_8_19090411_330.pdf
footprint YAGEO-0402R-reflow (YAGEO(国巨)数据手册中推荐的0402电阻的回流焊封装)
pins: 1, 2

## RC0402FR-07100RL
designator R?  value 100Ω  (hidden comment: RC0402FR-07100RL)
YAGEO(国巨) 0402 厚膜电阻 100Ω ±1% 62.5mW; 封装: 0402; 类别: 贴片电阻; 温度系数: ±100ppm/℃; 制造商: YAGEO(国巨); 子类别: 厚膜电阻; 精度: ±1%; 功率: 62.5mW; ComponentLink1Description: 数据手册; ComponentLink1URL: https://www.yageo.com/upload/website/yageo_PYu-R_INT-thick_8_19090411_330.pdf
footprint YAGEO-0402R-reflow (YAGEO(国巨)数据手册中推荐的0402电阻的回流焊封装)
pins: 1, 2

## RC0402FR-07120RL
designator R?  value 120Ω  (hidden comment: RC0402FR-07120RL)
YAGEO(国巨) 0402 厚膜电阻 120Ω ±1% 62.5mW; 封装: 0402; 类别: 贴片电阻; 温度系数: ±100ppm/℃; 制造商: YAGEO(国巨); 子类别: 厚膜电阻; 精度: ±1%; 功率: 62.5mW; ComponentLink1Description: 数据手册; ComponentLink1URL: https://www.yageo.com/upload/website/yageo_PYu-R_INT-thick_8_19090411_330.pdf
footprint YAGEO-0402R-reflow (YAGEO(国巨)数据手册中推荐的0402电阻的回流焊封装)
pins: 1, 2

## RC0402FR-07200RL
designator R?  value 200Ω  (hidden comment: RC0402FR-07200RL)
YAGEO(国巨) 0402 厚膜电阻 200Ω ±1% 62.5mW; 封装: 0402; 类别: 贴片电阻; 温度系数: ±100ppm/℃; 制造商: YAGEO(国巨); 子类别: 厚膜电阻; 精度: ±1%; 功率: 62.5mW; ComponentLink1Description: 数据手册; ComponentLink1URL: https://www.yageo.com/upload/website/yageo_PYu-R_INT-thick_8_19090411_330.pdf
footprint YAGEO-0402R-reflow (YAGEO(国巨)数据手册中推荐的0402电阻的回流焊封装)
pins: 1, 2

## RC0402FR-07220RL
designator R?  value 220Ω  (hidden comment: RC0402FR-07220RL)
YAGEO(国巨) 0402 厚膜电阻 220Ω ±1% 62.5mW; 封装: 0402; 类别: 贴片电阻; 温度系数: ±100ppm/℃; 制造商: YAGEO(国巨); 子类别: 厚膜电阻; 精度: ±1%; 功率: 62.5mW; ComponentLink1Description: 数据手册; ComponentLink1URL: https://www.yageo.com/upload/website/yageo_PYu-R_INT-thick_8_19090411_330.pdf
footprint YAGEO-0402R-reflow (YAGEO(国巨)数据手册中推荐的0402电阻的回流焊封装)
pins: 1, 2

## RC0603FR-071KL
designator R?  value 1kΩ  (hidden comment: RC0603FR-071KL)
YAGEO(国巨) 0603 厚膜电阻 1kΩ ±1% 100mW; 封装: 0603; 类别: 贴片电阻; 温度系数: ±100ppm/℃; 制造商: YAGEO(国巨); 子类别: 厚膜电阻; 精度: ±1%; 功率: 100mW; ComponentLink1Description: 数据手册; ComponentLink1URL: https://www.yageo.com/upload/website/yageo_PYu-R_INT-thick_8_19090411_330.pdf
footprint YAGEO-0603R-reflow (YAGEO(国巨)数据手册中推荐的0603电阻的回流焊封装)
footprint YAGEO-0603R-wave (YAGEO(国巨)数据手册中推荐的0603电阻的波峰焊封装)
pins: 1, 2

## RC0603FR-073KL
designator R?  value 3kΩ  (hidden comment: RC0603FR-073KL)
YAGEO(国巨) 0603 厚膜电阻 3kΩ ±1% 100mW; 封装: 0603; 类别: 贴片电阻; 温度系数: ±100ppm/℃; 制造商: YAGEO(国巨); 子类别: 厚膜电阻; 精度: ±1%; 功率: 100mW; ComponentLink1Description: 数据手册; ComponentLink1URL: https://www.yageo.com/upload/website/yageo_PYu-R_INT-thick_8_19090411_330.pdf
footprint YAGEO-0603R-reflow (YAGEO(国巨)数据手册中推荐的0603电阻的回流焊封装)
footprint YAGEO-0603R-wave (YAGEO(国巨)数据手册中推荐的0603电阻的波峰焊封装)
pins: 1, 2

## RC0603FR-074K7L
designator R?  value 4.7kΩ  (hidden comment: RC0603FR-074K7L)
YAGEO(国巨) 0603 厚膜电阻 4.7kΩ ±1% 100mW; 封装: 0603; 类别: 贴片电阻; 温度系数: ±100ppm/℃; 制造商: YAGEO(国巨); 子类别: 厚膜电阻; 精度: ±1%; 功率: 100mW; ComponentLink1Description: 数据手册; ComponentLink1URL: https://www.yageo.com/upload/website/yageo_PYu-R_INT-thick_8_19090411_330.pdf
footprint YAGEO-0603R-reflow (YAGEO(国巨)数据手册中推荐的0603电阻的回流焊封装)
footprint YAGEO-0603R-wave (YAGEO(国巨)数据手册中推荐的0603电阻的波峰焊封装)
pins: 1, 2

## RC0603FR-0710KL
designator R?  value 10kΩ  (hidden comment: RC0603FR-0710KL)
YAGEO(国巨) 0603 厚膜电阻 10kΩ ±1% 100mW; 封装: 0603; 类别: 贴片电阻; 温度系数: ±100ppm/℃; 制造商: YAGEO(国巨); 子类别: 厚膜电阻; 精度: ±1%; 功率: 100mW; ComponentLink1Description: 数据手册; ComponentLink1URL: https://www.yageo.com/upload/website/yageo_PYu-R_INT-thick_8_19090411_330.pdf
footprint YAGEO-0603R-reflow (YAGEO(国巨)数据手册中推荐的0603电阻的回流焊封装)
footprint YAGEO-0603R-wave (YAGEO(国巨)数据手册中推荐的0603电阻的波峰焊封装)
pins: 1, 2

## RC0603FR-0722KL
designator R?  value 22kΩ  (hidden comment: RC0603FR-0722KL)
YAGEO(国巨) 0603 厚膜电阻 22kΩ ±1% 100mW; 封装: 0603; 类别: 贴片电阻; 温度系数: ±100ppm/℃; 制造商: YAGEO(国巨); 子类别: 厚膜电阻; 精度: ±1%; 功率: 100mW; ComponentLink1Description: 数据手册; ComponentLink1URL: https://www.yageo.com/upload/website/yageo_PYu-R_INT-thick_8_19090411_330.pdf
footprint YAGEO-0603R-wave (YAGEO(国巨)数据手册中推荐的0603电阻的波峰焊封装)
footprint YAGEO-0603R-reflow (YAGEO(国巨)数据手册中推荐的0603电阻的回流焊封装)
pins: 1, 2

## RC0603FR-0727RL
designator R?  value 27Ω  (hidden comment: RC0603FR-0727RL)
YAGEO(国巨) 0603 厚膜电阻 27Ω ±1% 100mW; 封装: 0603; 类别: 贴片电阻; 温度系数: ±100ppm/℃; 制造商: YAGEO(国巨); 子类别: 厚膜电阻; 精度: ±1%; 功率: 100mW; ComponentLink1Description: 数据手册; ComponentLink1URL: https://www.yageo.com/upload/website/yageo_PYu-R_INT-thick_8_19090411_330.pdf
footprint YAGEO-0603R-reflow (YAGEO(国巨)数据手册中推荐的0603电阻的回流焊封装)
footprint YAGEO-0603R-wave (YAGEO(国巨)数据手册中推荐的0603电阻的波峰焊封装)
pins: 1, 2

## RC0603FR-0730RL
designator R?  value 30Ω  (hidden comment: RC0603FR-0730RL)
YAGEO(国巨) 0603 厚膜电阻 30Ω ±1% 100mW; 封装: 0603; 类别: 贴片电阻; 温度系数: ±100ppm/℃; 制造商: YAGEO(国巨); 子类别: 厚膜电阻; 精度: ±1%; 功率: 100mW; ComponentLink1Description: 数据手册; ComponentLink1URL: https://www.yageo.com/upload/website/yageo_PYu-R_INT-thick_8_19090411_330.pdf
footprint YAGEO-0603R-reflow (YAGEO(国巨)数据手册中推荐的0603电阻的回流焊封装)
footprint YAGEO-0603R-wave (YAGEO(国巨)数据手册中推荐的0603电阻的波峰焊封装)
pins: 1, 2

## RC0603FR-0739RL
designator R?  value 39Ω  (hidden comment: RC0603FR-0739RL)
YAGEO(国巨) 0603 厚膜电阻 39Ω ±1% 100mW; 封装: 0603; 类别: 贴片电阻; 温度系数: ±100ppm/℃; 制造商: YAGEO(国巨); 子类别: 厚膜电阻; 精度: ±1%; 功率: 100mW; ComponentLink1Description: 数据手册; ComponentLink1URL: https://www.yageo.com/upload/website/yageo_PYu-R_INT-thick_8_19090411_330.pdf
footprint YAGEO-0603R-reflow (YAGEO(国巨)数据手册中推荐的0603电阻的回流焊封装)
footprint YAGEO-0603R-wave (YAGEO(国巨)数据手册中推荐的0603电阻的波峰焊封装)
pins: 1, 2

## RC0603FR-0782RL
designator R?  value 82Ω  (hidden comment: RC0603FR-0782RL)
YAGEO(国巨) 0603 厚膜电阻 82Ω ±1% 100mW; 封装: 0603; 类别: 贴片电阻; 温度系数: ±100ppm/℃; 制造商: YAGEO(国巨); 子类别: 厚膜电阻; 精度: ±1%; 功率: 100mW; ComponentLink1Description: 数据手册; ComponentLink1URL: https://www.yageo.com/upload/website/yageo_PYu-R_INT-thick_8_19090411_330.pdf
footprint YAGEO-0603R-reflow (YAGEO(国巨)数据手册中推荐的0603电阻的回流焊封装)
footprint YAGEO-0603R-wave (YAGEO(国巨)数据手册中推荐的0603电阻的波峰焊封装)
pins: 1, 2

## RC0603FR-07100KL
designator R?  value 100kΩ  (hidden comment: RC0603FR-07100KL)
YAGEO(国巨) 0603 厚膜电阻 100kΩ ±1% 100mW; 封装: 0603; 类别: 贴片电阻; 温度系数: ±100ppm/℃; 制造商: YAGEO(国巨); 子类别: 厚膜电阻; 精度: ±1%; 功率: 100mW; ComponentLink1Description: 数据手册; ComponentLink1URL: https://www.yageo.com/upload/website/yageo_PYu-R_INT-thick_8_19090411_330.pdf
footprint YAGEO-0603R-reflow (YAGEO(国巨)数据手册中推荐的0603电阻的回流焊封装)
footprint YAGEO-0603R-wave (YAGEO(国巨)数据手册中推荐的0603电阻的波峰焊封装)
pins: 1, 2

## RC0603FR-07120RL
designator R?  value 120Ω  (hidden comment: RC0603FR-07120RL)
YAGEO(国巨) 0603 厚膜电阻 120Ω ±1% 100mW; 封装: 0603; 类别: 贴片电阻; 温度系数: ±100ppm/℃; 制造商: YAGEO(国巨); 子类别: 厚膜电阻; 精度: ±1%; 功率: 100mW; ComponentLink1Description: 数据手册; ComponentLink1URL: https://www.yageo.com/upload/website/yageo_PYu-R_INT-thick_8_19090411_330.pdf
footprint YAGEO-0603R-reflow (YAGEO(国巨)数据手册中推荐的0603电阻的回流焊封装)
footprint YAGEO-0603R-wave (YAGEO(国巨)数据手册中推荐的0603电阻的波峰焊封装)
pins: 1, 2

## RC0603FR-07180RL
designator R?  value 180Ω  (hidden comment: RC0603FR-07180RL)
YAGEO(国巨) 0603 厚膜电阻 180Ω ±1% 100mW; 封装: 0603; 类别: 贴片电阻; 温度系数: ±100ppm/℃; 制造商: YAGEO(国巨); 子类别: 厚膜电阻; 精度: ±1%; 功率: 100mW; ComponentLink1Description: 数据手册; ComponentLink1URL: https://www.yageo.com/upload/website/yageo_PYu-R_INT-thick_8_19090411_330.pdf
footprint YAGEO-0603R-reflow (YAGEO(国巨)数据手册中推荐的0603电阻的回流焊封装)
footprint YAGEO-0603R-wave (YAGEO(国巨)数据手册中推荐的0603电阻的波峰焊封装)
pins: 1, 2

## RC0603FR-07220RL
designator R?  value 220Ω  (hidden comment: RC0603FR-07220RL)
YAGEO(国巨) 0603 厚膜电阻 220Ω ±1% 100mW; 封装: 0603; 类别: 贴片电阻; 温度系数: ±100ppm/℃; 制造商: YAGEO(国巨); 子类别: 厚膜电阻; 精度: ±1%; 功率: 100mW; ComponentLink1Description: 数据手册; ComponentLink1URL: https://www.yageo.com/upload/website/yageo_PYu-R_INT-thick_8_19090411_330.pdf
footprint YAGEO-0603R-reflow (YAGEO(国巨)数据手册中推荐的0603电阻的回流焊封装)
footprint YAGEO-0603R-wave (YAGEO(国巨)数据手册中推荐的0603电阻的波峰焊封装)
pins: 1, 2

## RC0603JR-07180RL
designator R?  value 180Ω  (hidden comment: RC0603JR-07180RL)
YAGEO(国巨) 0603 厚膜电阻 180Ω ±5% 100mW; 封装: 0603; 类别: 贴片电阻; 温度系数: ±100ppm/℃; 制造商: YAGEO(国巨); 子类别: 厚膜电阻; 精度: ±5%; 功率: 100mW; ComponentLink1Description: 数据手册; ComponentLink1URL: https://www.yageo.com/upload/website/yageo_PYu-R_INT-thick_8_19090411_330.pdf
footprint YAGEO-0603R-reflow (YAGEO(国巨)数据手册中推荐的0603电阻的回流焊封装)
footprint YAGEO-0603R-wave (YAGEO(国巨)数据手册中推荐的0603电阻的波峰焊封装)
pins: 1, 2

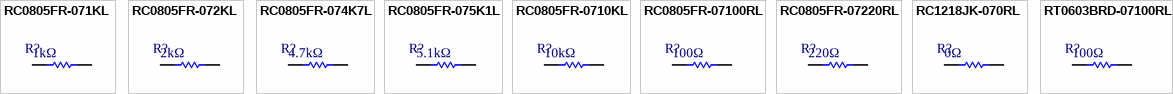
[diagram p2: symbols RC0805FR-071KL to RT0603BRD-07100RL]

## RC0805FR-071KL
designator R?  value 1kΩ  (hidden comment: RC0805FR-071KL)
YAGEO(国巨) 0805 厚膜电阻 1kΩ ±1% 125mW; 封装: 0805; 类别: 贴片电阻; 温度系数: ±100ppm/℃; 制造商: YAGEO(国巨); 子类别: 厚膜电阻; 精度: ±1%; 功率: 125mW; ComponentLink1Description: 数据手册; ComponentLink1URL: https://www.yageo.com/upload/website/yageo_PYu-R_INT-thick_8_19090411_330.pdf
footprint YAGEO-0805R-reflow (YAGEO(国巨)数据手册中推荐的0805贴片电阻的回流焊封装)
footprint YAGEO-0805R-wave (YAGEO(国巨)数据手册中推荐的0805贴片电阻的波峰焊封装)
pins: 1, 2

## RC0805FR-072KL
designator R?  value 2kΩ  (hidden comment: RC0805FR-072KL)
YAGEO(国巨) 0805 厚膜电阻 2kΩ ±1% 125mW; 封装: 0805; 类别: 贴片电阻; 温度系数: ±100ppm/℃; 制造商: YAGEO(国巨); 子类别: 厚膜电阻; 精度: ±1%; 功率: 125mW; ComponentLink1Description: 数据手册; ComponentLink1URL: https://www.yageo.com/upload/website/yageo_PYu-R_INT-thick_8_19090411_330.pdf
footprint YAGEO-0805R-reflow (YAGEO(国巨)数据手册中推荐的0805贴片电阻的回流焊封装)
footprint YAGEO-0805R-wave (YAGEO(国巨)数据手册中推荐的0805贴片电阻的波峰焊封装)
pins: 1, 2

## RC0805FR-074K7L
designator R?  value 4.7kΩ  (hidden comment: RC0805FR-074K7L)
YAGEO(国巨) 0805 厚膜电阻 4.7kΩ ±1% 125mW; 封装: 0805; 类别: 贴片电阻; 温度系数: ±100ppm/℃; 制造商: YAGEO(国巨); 子类别: 厚膜电阻; 精度: ±1%; 功率: 125mW; ComponentLink1Description: 数据手册; ComponentLink1URL: https://www.yageo.com/upload/website/yageo_PYu-R_INT-thick_8_19090411_330.pdf
footprint YAGEO-0805R-reflow (YAGEO(国巨)数据手册中推荐的0805贴片电阻的回流焊封装)
footprint YAGEO-0805R-wave (YAGEO(国巨)数据手册中推荐的0805贴片电阻的波峰焊封装)
pins: 1, 2

## RC0805FR-075K1L
designator R?  value 5.1kΩ  (hidden comment: RC0805FR-075K1L)
YAGEO(国巨) 0805 厚膜电阻 5.1kΩ ±1% 125mW; 封装: 0805; 类别: 贴片电阻; 温度系数: ±100ppm/℃; 制造商: YAGEO(国巨); 子类别: 厚膜电阻; 精度: ±1%; 功率: 125mW; ComponentLink1Description: 数据手册; ComponentLink1URL: https://www.yageo.com/upload/website/yageo_PYu-R_INT-thick_8_19090411_330.pdf
footprint YAGEO-0805R-reflow (YAGEO(国巨)数据手册中推荐的0805贴片电阻的回流焊封装)
footprint YAGEO-0805R-wave (YAGEO(国巨)数据手册中推荐的0805贴片电阻的波峰焊封装)
pins: 1, 2

## RC0805FR-0710KL
designator R?  value 10kΩ  (hidden comment: RC0805FR-0710KL)
YAGEO(国巨) 0805 厚膜电阻 10kΩ ±1% 125mW; 封装: 0805; 类别: 贴片电阻; 温度系数: ±100ppm/℃; 制造商: YAGEO(国巨); 子类别: 厚膜电阻; 精度: ±1%; 功率: 125mW; ComponentLink1Description: 数据手册; ComponentLink1URL: https://www.yageo.com/upload/website/yageo_PYu-R_INT-thick_8_19090411_330.pdf
footprint YAGEO-0805R-reflow (YAGEO(国巨)数据手册中推荐的0805贴片电阻的回流焊封装)
footprint YAGEO-0805R-wave (YAGEO(国巨)数据手册中推荐的0805贴片电阻的波峰焊封装)
pins: 1, 2

## RC0805FR-07100RL
designator R?  value 100Ω  (hidden comment: RC0805FR-07100RL)
YAGEO(国巨) 0805 厚膜电阻 100Ω ±1% 125mW; 封装: 0805; 类别: 贴片电阻; 温度系数: ±100ppm/℃; 制造商: YAGEO(国巨); 子类别: 厚膜电阻; 精度: ±1%; 功率: 125mW; ComponentLink1Description: 数据手册; ComponentLink1URL: https://www.yageo.com/upload/website/yageo_PYu-R_INT-thick_8_19090411_330.pdf
footprint YAGEO-0805R-reflow (YAGEO(国巨)数据手册中推荐的0805贴片电阻的回流焊封装)
footprint YAGEO-0805R-wave (YAGEO(国巨)数据手册中推荐的0805贴片电阻的波峰焊封装)
pins: 1, 2

## RC0805FR-07220RL
designator R?  value 220Ω  (hidden comment: RC0805FR-07220RL)
YAGEO(国巨) 0805 厚膜电阻 220Ω ±1% 125mW; 封装: 0805; 类别: 贴片电阻; 温度系数: ±100ppm/℃; 制造商: YAGEO(国巨); 子类别: 厚膜电阻; 精度: ±1%; 功率: 125mW; ComponentLink1Description: 数据手册; ComponentLink1URL: https://www.yageo.com/upload/website/yageo_PYu-R_INT-thick_8_19090411_330.pdf
footprint YAGEO-0805R-reflow (YAGEO(国巨)数据手册中推荐的0805贴片电阻的回流焊封装)
footprint YAGEO-0805R-wave (YAGEO(国巨)数据手册中推荐的0805贴片电阻的波峰焊封装)
pins: 1, 2

## RC1218JK-070RL
designator R?  value 0Ω  (hidden comment: RC1218JK-070RL)
YAGEO(国巨) 1218 厚膜电阻 0Ω ±5% 1W; 封装: 1218; 类别: 贴片电阻; 制造商: YAGEO(国巨); 子类别: 厚膜电阻; 精度: ±5%; 功率: 1W; ComponentLink1Description: 数据手册; ComponentLink1URL: https://www.yageo.com/upload/website/yageo_PYu-R_INT-thick_8_19090411_330.pdf; 温度系数: -
footprint YAGEO-1218R-reflow (YAGEO(国巨)数据手册中推荐的1218贴片电阻的回流焊封装)
footprint YAGEO-1218R-wave (YAGEO(国巨)数据手册中推荐的1218贴片电阻的波峰焊封装)
pins: 1, 2

## RT0603BRD-07100RL
designator R?  value 100Ω  (hidden comment: RT0603BRD-07100RL)
YAGEO(国巨) 0603 厚膜电阻 100Ω ±0.1% 100mW; 封装: 0603; 类别: 贴片电阻; 温度系数: ±100ppm/℃; 制造商: YAGEO(国巨); 子类别: 厚膜电阻; 精度: ±0.1%; 功率: 100mW; ComponentLink1Description: 数据手册; ComponentLink1URL: https://www.yageo.com/upload/website/yageo_PYu-R_INT-thick_8_19090411_330.pdf
footprint YAGEO-0603R-reflow (YAGEO(国巨)数据手册中推荐的0603电阻的回流焊封装)
footprint YAGEO-0603R-wave (YAGEO(国巨)数据手册中推荐的0603电阻的波峰焊封装)
pins: 1, 2